# Altium footprint library TO92254P460H750-3.PcbLib: 1 footprints
Each footprint in its own frame and in the unit in brackets; x right, y up, seen from the top. Pads: shape width x height; smd on the part's side, far side on the other; paste and mask are expansions set on the pad; w line width, h text height; cw(c..) or ccw(c..) is an arc to the next point about the centre after c.
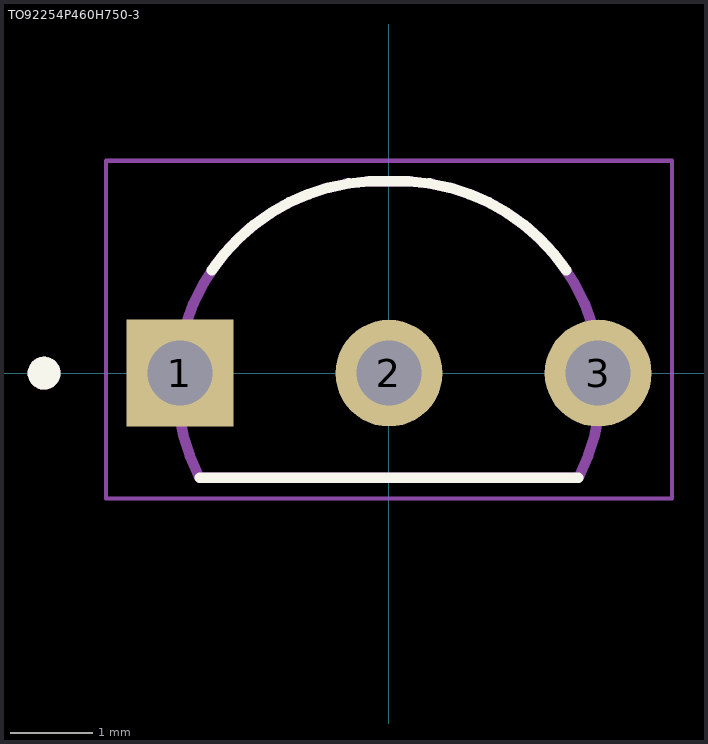
[diagram p0: the footprint, top view; thin cyan lines are the x and y axes]

## TO92254P460H750-3 [mm]
height 7.5
pads (3):
  rect 1.298x1.298 / inner round 1.298 / far side rect 1.298x1.298 hole 0.79: 1(-2.54,0)
  round 1.298 hole 0.79: 2(0,0) 3(2.54,0)
Top Overlay:
  circle w0.2: c-4.189,0 r0.1
  lines w0.127: -2.3,-1.27 2.3,-1.27 ; -2.152,1.247 cw(c-0.111,-0.13) 0.018,2.329 ; -0.018,2.329 cw(c0.111,-0.13) 2.152,1.247
Mechanical 13:
  circle w0.2: c-4.189,0 r0.1
  lines w0.127: -2.308,-1.254 cw(c-0.111,-0.134) 0.018,2.329 ; -2.3,-1.27 2.3,-1.27 ; -0.018,2.329 cw(c0.111,-0.134) 2.308,-1.254
Mechanical 15:
  lines w0.05: -3.439,-1.52 -3.439,2.58 3.439,2.58 3.439,-1.52 -3.439,-1.52
3D body "step_temp.STEP": height 8.09, standoff -9.01, extent -2.74,-1.27 2.74,2.33